# Altium footprint library Inductor.PcbLib: 7 footprints
Each footprint in its own frame and in the unit in brackets; x right, y up, seen from the top. Pads: shape width x height; smd on the part's side, far side on the other; paste and mask are expansions set on the pad; w line width, h text height; cw(c..) or ccw(c..) is an arc to the next point about the centre after c.
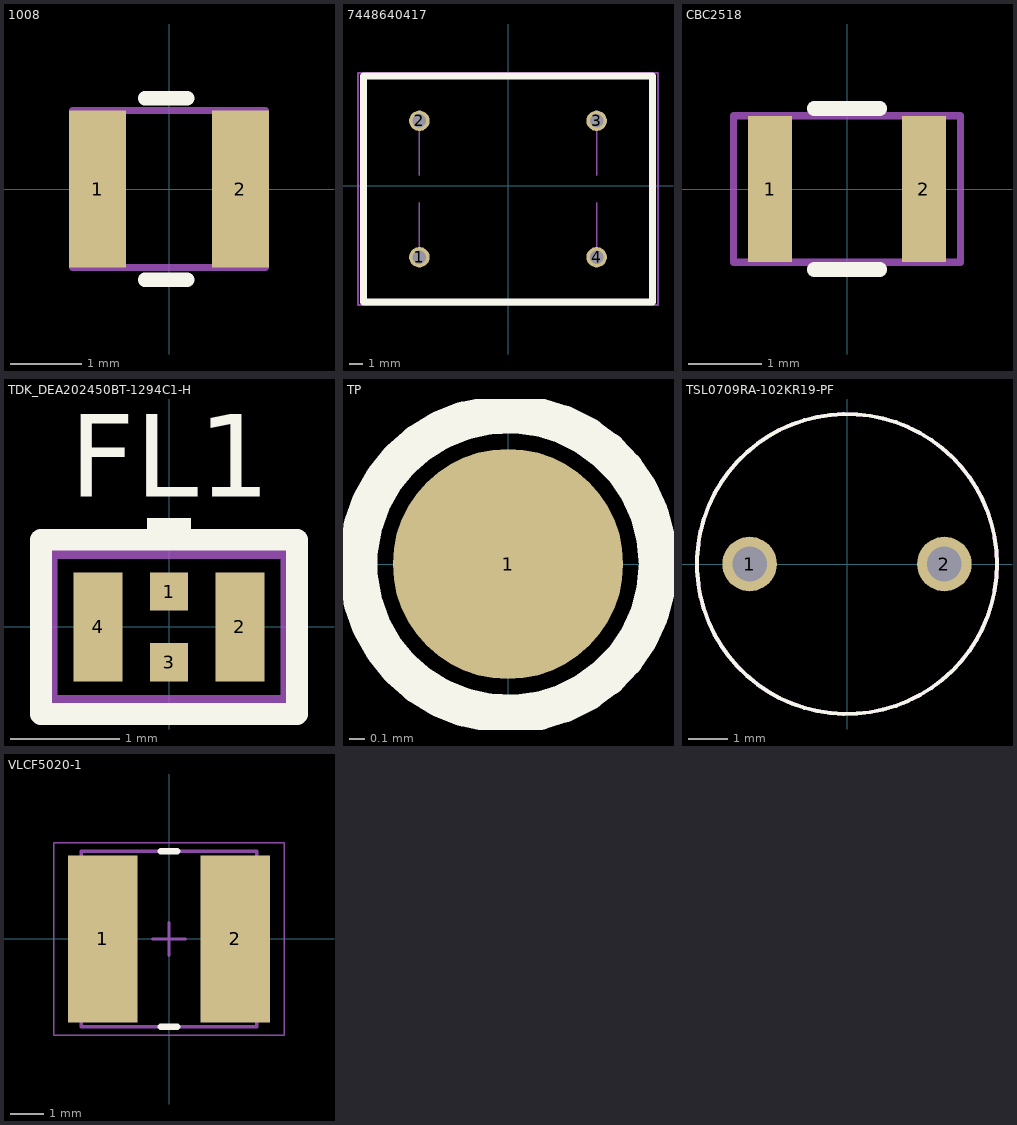
[diagram p0: the footprints below, top view; thin cyan lines are the x and y axes]

## 1008 [mm]
pads (2):
  rect 0.8x2.2 smd: 1(-1,0) 2(1,0)
Top Overlay:
  lines w0.2: -0.335,-1.27 0.254,-1.27 ; -0.335,1.27 0.254,1.27
Mechanical 5:
  lines w0.1: -1.35,-1.1 1.35,-1.1 1.35,1.1 -1.35,1.1 -1.35,-1.1
3D body: height 1.2, standoff 0, extent -0.549,-1.099 0.549,1.099
3D body: height 1.2, standoff 0, extent 0.551,-1.099 1.349,1.099
3D body: height 1.2, standoff 0, extent -1.349,-1.099 -0.551,1.099

## 7448640417 [mm]
pads (4):
  round 1.5 hole 1: 1(-6.5,-5.254) 2(-6.5,4.746) 3(6.5,4.746) 4(6.5,-5.254)
Top Overlay:
  lines w0.508: -10.6,-8.554 10.6,-8.554 10.6,8.046 -10.6,8.046 -10.6,-8.554
Mechanical 15:
  lines w0.127: -6.5,-5.254 -6.5,-1.254 ; -6.5,0.746 -6.5,4.746 ; 6.5,-5.254 6.5,-1.254 ; 6.5,0.746 6.5,4.746
Mechanical 20:
  lines w0.127: -11,-8.754 -11,8.246 11,8.246 11,-8.754 -11,-8.754

## CBC2518 [mm]
pads (2):
  rect 0.6x2 smd: 1(-1.05,0) 2(1.05,0)
Top Overlay:
  lines w0.2: -0.45,-1.1 0.45,-1.1 ; -0.45,1.1 0.45,1.1
Mechanical 5:
  lines w0.1: -1.55,-1 1.55,-1 1.55,1 -1.55,1 -1.55,-1
3D body: height 2, standoff 0, extent 0.701,-0.999 1.349,0.999
3D body: height 2, standoff 0, extent -1.349,-0.999 -0.701,0.999
3D body: height 2, standoff 0, extent -0.699,-0.999 0.699,0.999

## TDK_DEA202450BT-1294C1-H [mm]
pads (4):
  rect 0.35x0.35 smd: 1(0,0.325) 3(0,-0.325)
  rect 0.45x1 smd paste-1.27: 2(0.65,0) 4(-0.65,0)
Top Overlay:
  rectangle: -0.2,0.8 0.2,1
  lines w0.2: -1.175,-0.8 1.175,-0.8 1.175,0.8 -1.175,0.8 -1.175,-0.8
  text "FL1" at -0.913,1.194 h0.76
Top Paste:
  rectangle: -0.838,0.051 -0.483,0.432
  rectangle: -0.838,-0.432 -0.483,-0.025
  rectangle: 0.483,-0.432 0.838,-0.025
  rectangle: 0.483,0.051 0.838,0.432
Mechanical 5:
  rectangle: -0.2,0.675 0.2,0.9
  lines w0.1: -1.075,-0.675 -1.075,0.675 1.075,0.675 1.075,-0.675 -1.075,-0.675
3D body: height 0.8, standoff 0.7, extent -0.8,-0.4 -0.2,0.4
3D body: height 0.8, standoff 0.7, extent -1.075,-0.675 1.075,0.675
3D body: height 0.7, standoff 0, extent -1.075,-0.675 1.075,0.675

## TP [mil]
pads (1):
  round 60 smd: 1(0,0)
Top Overlay:
  circle w10: c0,0 r39.05

## TSL0709RA-102KR19-PF [mm]
pads (2):
  round 1.4 hole 0.89: 1(-2.5,0) 2(2.5,0)
Top Overlay:
  circle w0.1: c0,0 r3.85
Mechanical 15:
  circle w0.1: c0,0 r3.85

## VLCF5020-1 [mm]
pads (2):
  rect 2.1x5.05 smd: 1(-2,0) 2(2,0)
Top Overlay:
  lines w0.2: -0.25,-2.65 0.25,-2.65 ; -0.25,2.65 0.25,2.65
Mechanical 13:
  lines w0.1: -2.65,-2.65 2.65,-2.65 2.65,2.65 -2.65,2.65 -2.65,-2.65
Mechanical 15:
  lines w0.05: -3.475,-2.9 3.475,-2.9 3.475,2.9 -3.475,2.9 -3.475,-2.9
  lines w0.1: -0.5,0 0.5,0 ; 0,-0.5 0,0.5
3D body "VLCF5020-1.step": height 2.1, standoff 0, extent -2.675,-2.575 2.675,2.575